# EAGLE library part MC100LVELT23DTG (library on-semiconductor-01)
Dual Differential LVPECL/LVDS to LVTTL Translator
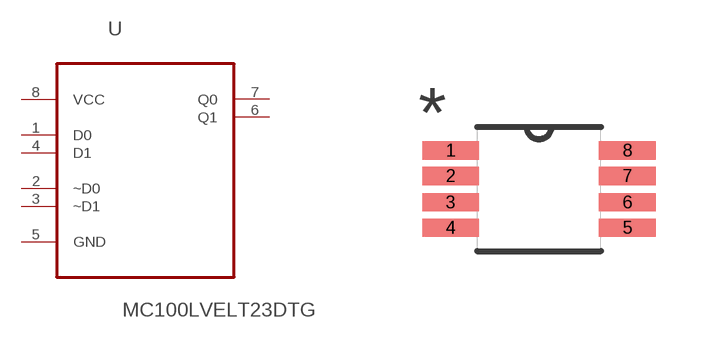
[diagram p152: symbol with the pads of SOP65P490X110-8N; footprint SOP65P490X110-8N]

Designator prefix U

## MC100LVELT23DTG (MPN: MC100LVELT23DTG; OC_FARNELL: 1258374; OC_NEWARK: 42K0472; PACKAGE: TSSOP-8; SUPPLIER: On Semiconductor)  [SOP65P490X110-8N]
1  D0  in
2  ~D0  in
3  ~D1  in
4  D1  in
5  GND  pas
6  Q1  out
7  Q0  out
8  VCC  pwr

## Footprint SOP65P490X110-8N (pad centres in mm)
smd 1.422 x 0.457: 1 -2.21,0.965; 2 -2.21,0.33; 3 -2.21,-0.33; 4 -2.21,-0.965; 5 2.21,-0.965; 6 2.21,-0.33; 7 2.21,0.33; 8 2.21,0.965